# EAGLE library part MOS-2P-? (library Transistor)
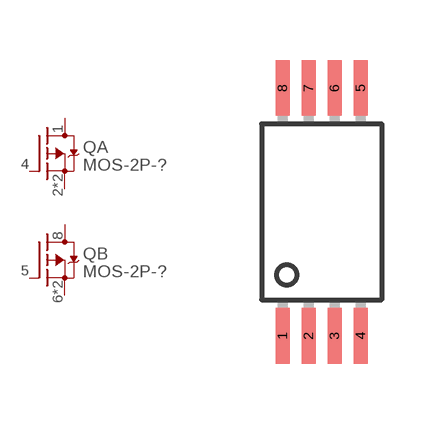
[diagram p4: symbol with the pads of TSSOP8; footprint TSSOP8]

Designator prefix Q; gates A=P-MOSFET B=P-MOSFET

## MOS-2P-VISHAY-TSSOP8  [TSSOP8]
1  A:D  pas
2  A:S  pas
3  A:S  pas
4  A:G  pas
5  B:G  pas
6  B:S  pas
7  B:S  pas
8  B:D  pas

## Footprint TSSOP8 (pad centres in mm)
smd 0.35 x 1.4: 1 -0.975,-3.1; 2 -0.325,-3.1; 3 0.325,-3.1; 4 0.975,-3.1; 5 0.975,3.1; 6 0.325,3.1; 7 -0.325,3.1; 8 -0.975,3.1